# Altium footprint library TL2285OA.PcbLib: 1 footprints
Each footprint in its own frame and in the unit in brackets; x right, y up, seen from the top. Pads: shape width x height; smd on the part's side, far side on the other; paste and mask are expansions set on the pad; w line width, h text height; cw(c..) or ccw(c..) is an arc to the next point about the centre after c.
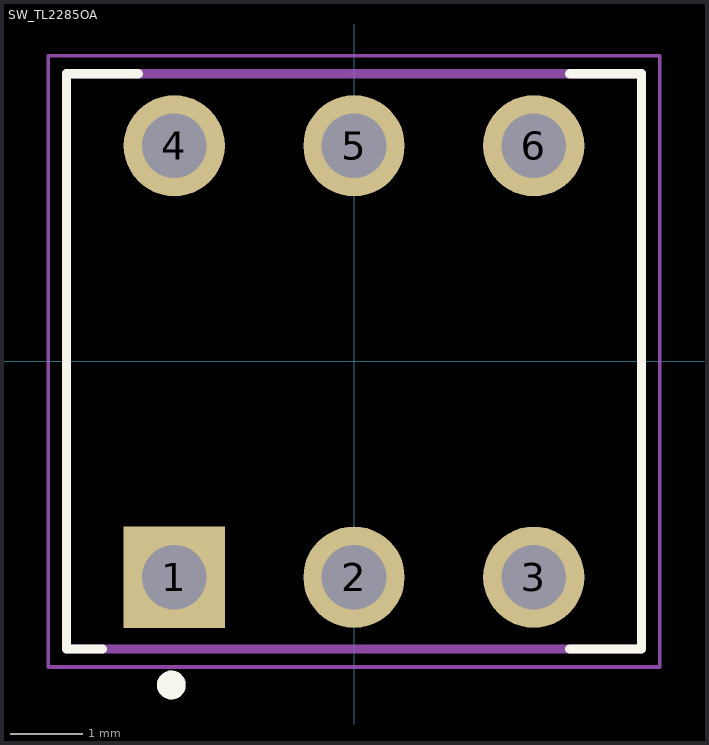
[diagram p0: the footprint, top view; thin cyan lines are the x and y axes]

## SW_TL2285OA [mm]
pads (6):
  rect 1.408x1.408 hole 0.9: 1(-2.5,-3)
  round 1.408 hole 0.9: 2(0,-3) 3(2.5,-3) 4(-2.5,3) 5(0,3) 6(2.5,3)
Top Overlay:
  circle w0.2: c-2.54,-4.5 r0.1
  lines w0.127: -3.5,-4 -4,-4 -4,4 -3,4 ; 3,-4 4,-4 4,4 3,4
Mechanical 13:
  circle w0.2: c-2.54,-4.5 r0.1
  lines w0.127: -4,-4 -4,4 4,4 4,-4 -4,-4
Mechanical 15:
  lines w0.05: -4.25,-4.25 -4.25,4.25 4.25,4.25 4.25,-4.25 -4.25,-4.25
3D body "step_temp.STEP": height 13.5, standoff -3.5, extent -4,-4 4,4